# Altium footprint library DC-005-5A-2.0.PcbLib: 1 footprints
Each footprint in its own frame and in the unit in brackets; x right, y up, seen from the top. Pads: shape width x height; smd on the part's side, far side on the other; paste and mask are expansions set on the pad; w line width, h text height; cw(c..) or ccw(c..) is an arc to the next point about the centre after c.
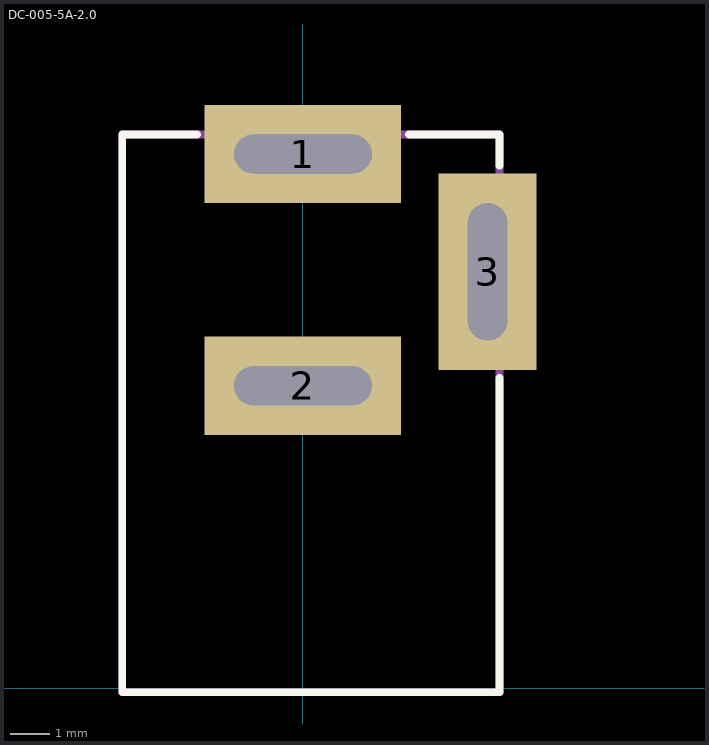
[diagram p0: the footprint, top view; thin cyan lines are the x and y axes]

## DC-005-5A-2.0 [mm]
pads (3):
  rect 5x2.5 hole 1 slot 3.5 at 0 deg: 1(0,13.6) 2(0,7.7)
  rect 2.5x5 hole 1 slot 3.5 at 90 deg: 3(4.7,10.6)
Top Overlay:
  lines w0.2: -2.7,14.1 -4.6,14.1 -4.6,-0.1 5,-0.1 5,7.9 ; 2.7,14.1 5,14.1 5,13.3
Top Assembly:
  lines w0.2: -4.6,-0.1 5,-0.1 5,14.1 -4.6,14.1 -4.6,-0.1
  text "'.Designator'" at -0.75,7.4 h0.7
3D body "dc-005-5a-20.stp": height 11, standoff -3.6, extent -4.5,0 4.9,14